# Altium footprint library SOJ-44_400mil.PcbLib: 1 footprints
Each footprint in its own frame and in the unit in brackets; x right, y up, seen from the top. Pads: shape width x height; smd on the part's side, far side on the other; paste and mask are expansions set on the pad; w line width, h text height; cw(c..) or ccw(c..) is an arc to the next point about the centre after c.
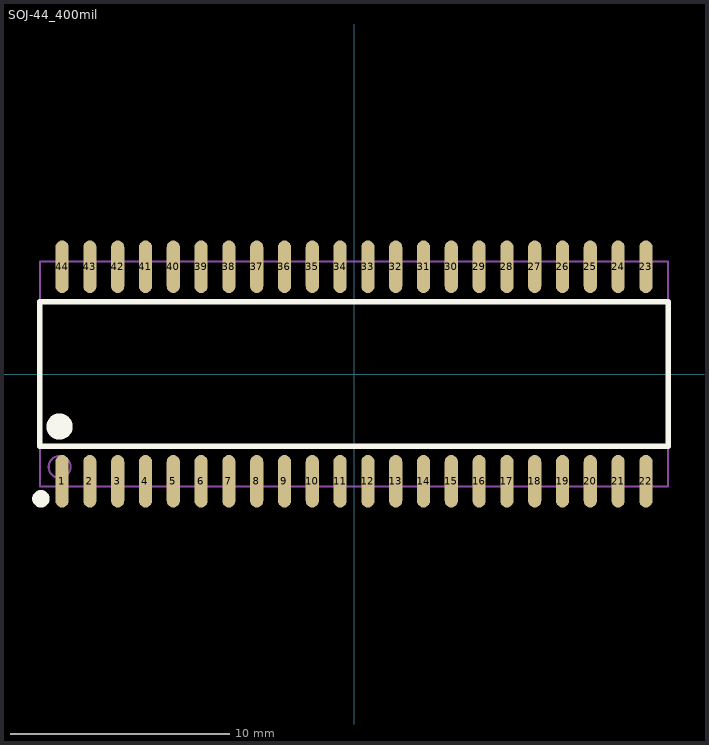
[diagram p0: the footprint, top view; thin cyan lines are the x and y axes]

## SOJ-44_400mil [mm]
pads (44):
  oval 0.6x2.4 smd: 1(-13.335,-4.9) 2(-12.065,-4.9) 3(-10.795,-4.9) 4(-9.525,-4.9) 5(-8.255,-4.9) 6(-6.985,-4.9) 7(-5.715,-4.9) 8(-4.445,-4.9) 9(-3.175,-4.9) 10(-1.905,-4.9) 11(-0.635,-4.9) 12(0.635,-4.9) 13(1.905,-4.9) 14(3.175,-4.9) 15(4.445,-4.9) 16(5.715,-4.9) 17(6.985,-4.9) 18(8.255,-4.9) 19(9.525,-4.9) 20(10.795,-4.9) 21(12.065,-4.9) 22(13.335,-4.9) 23(13.335,4.9) 24(12.065,4.9) 25(10.795,4.9) 26(9.525,4.9) 27(8.255,4.9) 28(6.985,4.9) 29(5.715,4.9) 30(4.445,4.9) 31(3.175,4.9) 32(1.905,4.9) 33(0.635,4.9) 34(-0.635,4.9) 35(-1.905,4.9) 36(-3.175,4.9) 37(-4.445,4.9) 38(-5.715,4.9) 39(-6.985,4.9) 40(-8.255,4.9) 41(-9.525,4.9) 42(-10.795,4.9) 43(-12.065,4.9) 44(-13.335,4.9)
Top Overlay:
  circle w0.6: c-13.45,-2.4 r0.3
  circle w0.4: c-14.3,-5.7 r0.2
  lines w0.254: -14.35,-3.3 -14.35,3.3 14.35,3.3 14.35,-3.3 -14.35,-3.3
Mechanical 13:
  circle w0.1: c-13.45,-4.245 r0.5
  lines w0.1: -14.35,-5.145 -14.35,5.145 14.35,5.145 14.35,-5.145 -14.35,-5.145